# Altium schematic symbol library TMS-101-02-G-D-RA.SchLib: 1 symbol
Pins are listed as number, name and electrical type; pins without a type are passive.

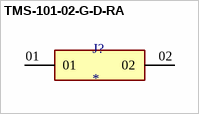
[diagram p0: symbol TMS-101-02-G-D-RA]

## TMS-101-02-G-D-RA
designator J?
MP: TMS-101-02-G-D-RA; Package: None; Price: None; Value: *; Availability: Unavailable
footprint SAMTEC_TMS-101-02-G-D-RA
pins: 01, 02